# EAGLE library part RTD34012F (library RTD34012F)
TE Connectivity PCB Mount Non-Latching Relay - SPNO, 12V Coil, 16A Switching Current Source: Datasheet <https://www.te.com/commerce/DocumentDelivery/DDEController?Action=srchrtrv&DocNm=RT1pb&DocType=DS&DocLang=English>
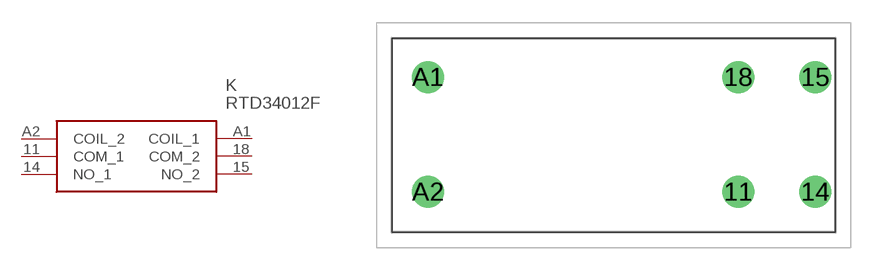
[diagram p0: symbol with the pads of RTD34012F; footprint RTD34012F]

Designator prefix K

## RTD34012F (Arrow_Part_Number: RTD34012F; Arrow_Price-Stock: https://www.arrow.com/en/products/rtd34012f/te-connectivity; Description: TE Connectivity PCB Mount Non-Latching Relay - SPNO, 12V Coil, 16A Switching Current; Height: 15.7mm; Manufacturer_Name: TE Connectivity; Manufacturer_Part_Number: RTD34012F; Mouser_Part_Number: 655-RTD34012F; Mouser_Price-Stock: https://www.mouser.co.uk/ProductDetail/TE-Connectivity-PB/RTD34012F?qs=xBghIHTbXkif3RDRm%2FBtiA%3D%3D)  [RTD34012F]
11  COM_1
14  NO_1
15  NO_2
18  COM_2
A1  COIL_1
A2  COIL_2

## Footprint RTD34012F (pad centres in mm)
RTD34012F-2
drill 1.4 pad 2.1: 11 0,0; 14 5.04,0; 15 5.04,7.5; 18 0,7.5; A1 -20.3,7.5; A2 -20.3,0